# Altium integrated library LM324MX.IntLib: 1 symbol
Pins are listed as number, name and electrical type; pins without a type are passive.

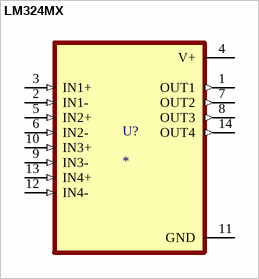
[diagram p0: symbol LM324MX]

## LM324MX
designator U?
Low power general-purpose quad operational amplifier 14-SOIC 0 to 70; MF: Texas Instruments; MP: LM324MX; Package: SOIC-14 Texas Instruments; Price: None; Value: *; SnapEDA_Link: https://www.snapeda.com/parts/LM324MX/Texas+Instruments/view-part/?ref=snap; Availability: In Stock; Check_prices: https://www.snapeda.com/parts/LM324MX/Texas+Instruments/view-part/?ref=eda
footprint SOIC127P600X175-14N
pins: 1 OUT1 (out), 2 IN1- (in), 3 IN1+ (in), 4 V+ (power), 5 IN2+ (in), 6 IN2- (in), 7 OUT2 (out), 8 OUT3 (out), 9 IN3- (in), 10 IN3+ (in), 11 GND (power), 12 IN4- (in), 13 IN4+ (in), 14 OUT4 (out)